# Altium integrated library RC0402FR-074K7L.IntLib: 1 symbol
Pins are listed as number, name and electrical type; pins without a type are passive.

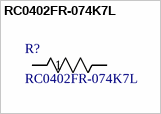
[diagram p0: symbol RC0402FR-074K7L]

## RC0402FR-074K7L
designator R?
Description; Manufacturer_Name: Yageo; Copyright: Copyright (C) 2025 Ultra Librarian. All rights reserved.; Manufacturer_Part_Number: RC0402FR-074K7L
footprint YAG_R0402_YAG
pins: 1, 2